# Altium schematic symbol library SCH - RESET - ST STM812.SCHLIB: 1 symbol
Pins are listed as number, name and electrical type; pins without a type are passive.

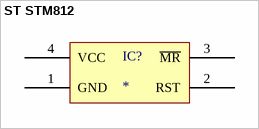
[diagram p0: symbol ST STM812]

## ST STM812
designator IC?
pins: 1 GND, 2 RST, 3 ~{MR}, 4 VCC